# Altium schematic symbol library Connector.SchLib: 31 symbols
Pins are listed as number, name and electrical type; pins without a type are passive.

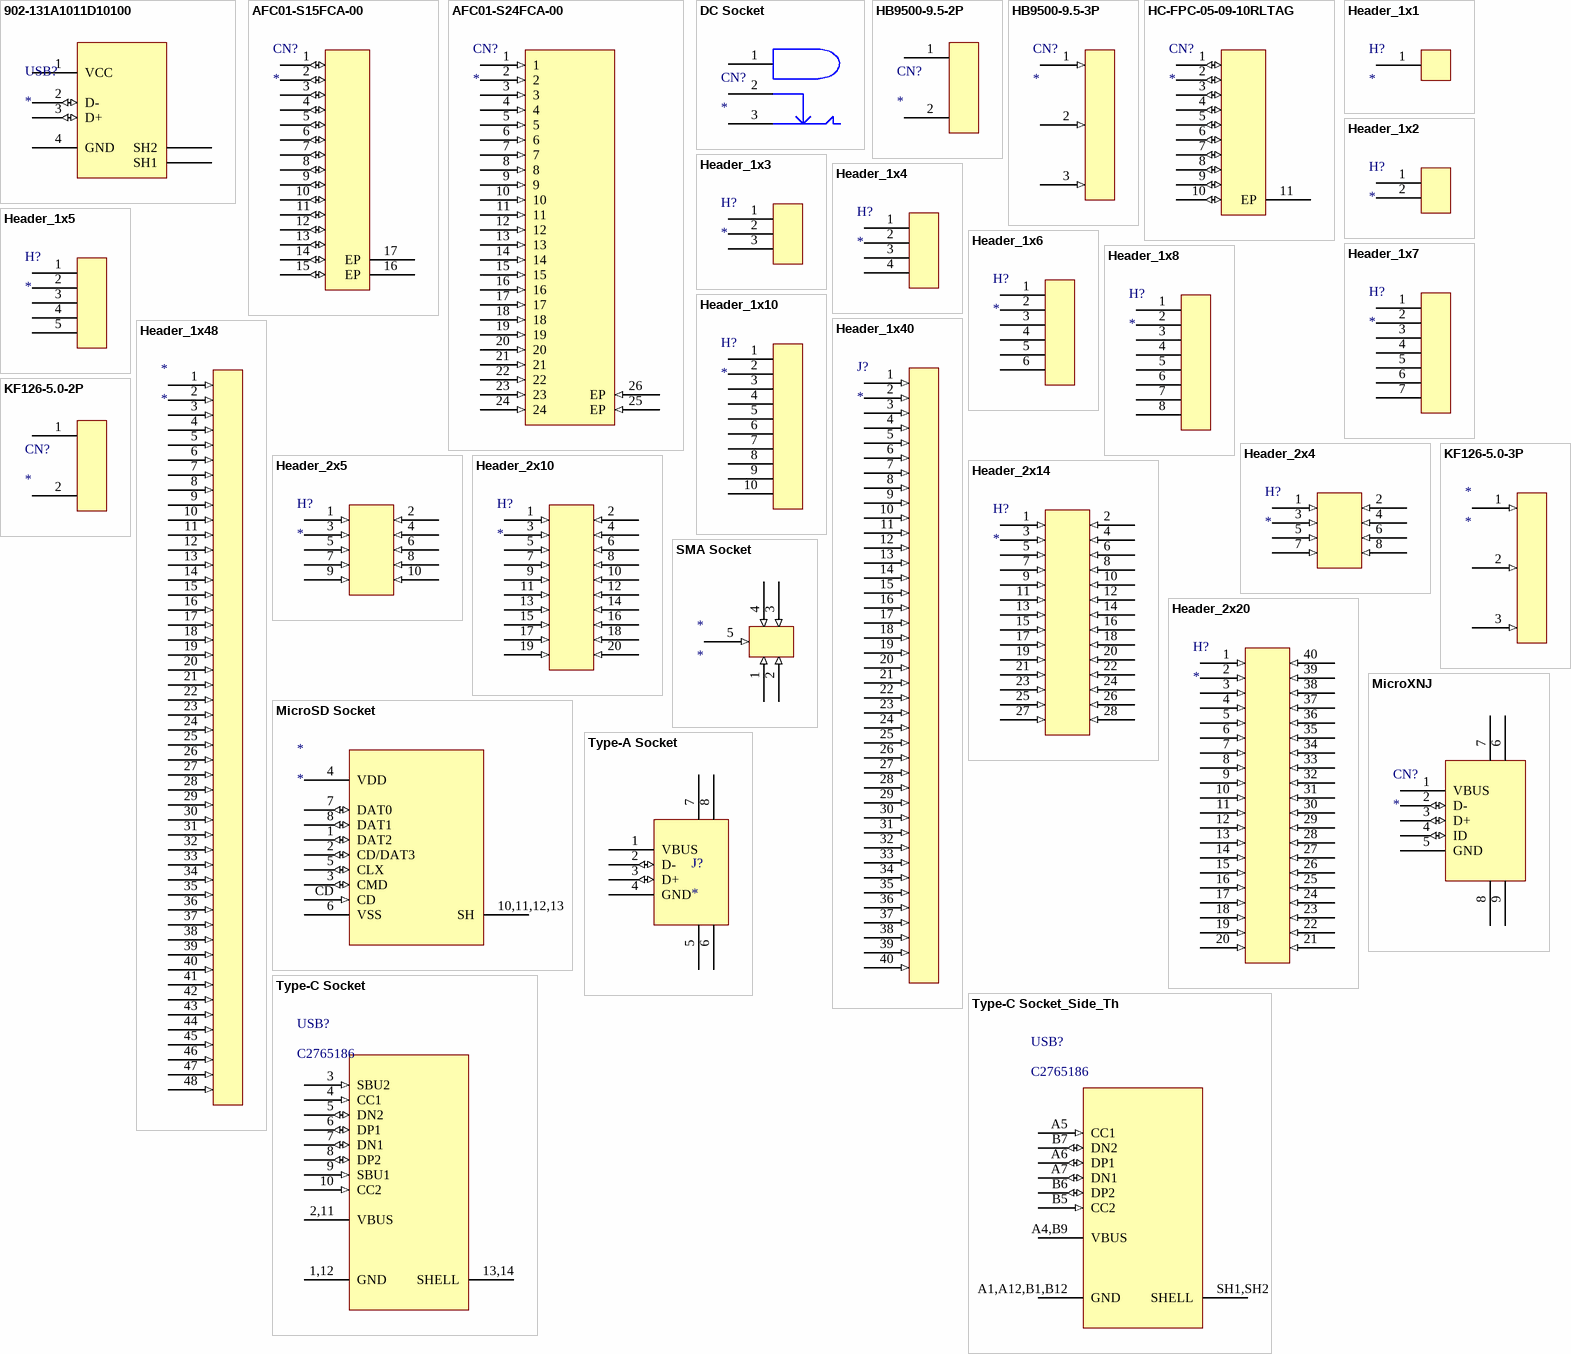
[diagram p0: symbols 902-131A1011D10100 to Type-C Socket_Side_Th]

## 902-131A1011D10100
designator USB?
USB Type-A Socket
footprint 902-131A1011D10100
pins: 1 VCC (power), 2 D- (io), 3 D+ (io), 4 GND (power), SH1, SH2

## AFC01-S15FCA-00
designator CN?
15p Gold Finger Socket
footprint FPC-SMD_15P-P0.50_JS_AFC01-S15FCA-00
pins: 1 (io), 2 (io), 3 (io), 4 (io), 5 (io), 6 (io), 7 (io), 8 (io), 9 (io), 10 (io), 11 (io), 12 (io), 13 (io), 14 (io), 15 (io), 16 EP, 17 EP

## AFC01-S24FCA-00
designator CN?
24p Gold Finger Socket
footprint FPC-SMD_P0.50-24P_FGS-XJ-H2.0
pins: 1 (in), 2 (in), 3 (in), 4 (in), 5 (in), 6 (in), 7 (in), 8 (in), 9 (in), 10 (in), 11 (in), 12 (in), 13 (in), 14 (in), 15 (in), 16 (in), 17 (in), 18 (in), 19 (in), 20 (in), 21 (in), 22 (in), 23 (in), 24 (in), 25 EP (in), 26 EP (in)

## DC Socket
designator CN?
footprint DC-005 2.0
footprint DC-005-A250
pins: 1 V+, 2 V-MOVE, 3 V-STABLE

## HB9500-9.5-2P
designator CN?
footprint HB9500-9.5-2P
pins: 1, 2

## HB9500-9.5-3P
designator CN?
footprint HB9500-9.5-3P
pins: 1 (in), 2 (in), 3 (in)

## HC-FPC-05-09-10RLTAG
designator CN?
15p Gold Finger Socket
footprint FPC-SMD_10P-P0.50_HC-FPC-05-09-10RLTAG
pins: 1 (io), 2 (io), 3 (io), 4 (io), 5 (io), 6 (io), 7 (io), 8 (io), 9 (io), 10 (io), 11 EP

## Header_1x1
designator H?
footprint HEADER_2.54_1X1
pins: 1

## Header_1x2
designator H?
footprint HEADER_2.54_1X2
pins: 1, 2

## Header_1x3
designator H?
footprint HEADER_2.54_1x3
pins: 1, 2, 3

## Header_1x4
designator H?
footprint HEADER_2.54_1x4
pins: 1, 2, 3, 4

## Header_1x5
designator H?
footprint HEADER_2.54_1X5
pins: 1, 2, 3, 4, 5

## Header_1x6
designator H?
footprint HEADER_2.54_1X6
pins: 1, 2, 3, 4, 5, 6

## Header_1x7
designator H?
footprint HEADER_2.54_1X7
pins: 1, 2, 3, 4, 5, 6, 7

## Header_1x8
designator H?
footprint HEADER_2.54_1X8
pins: 1, 2, 3, 4, 5, 6, 7, 8

## Header_1x10
designator H?
footprint HEADER_2.54_1X10
pins: 1, 2, 3, 4, 5, 6, 7, 8, 9, 10

## Header_1x40
designator J?
footprint FPC-SMD_P0.50-40P_FGS-XJ-H2.0
pins: 1 (in), 2 (in), 3 (in), 4 (in), 5 (in), 6 (in), 7 (in), 8 (in), 9 (in), 10 (in), 11 (in), 12 (in), 13 (in), 14 (in), 15 (in), 16 (in), 17 (in), 18 (in), 19 (in), 20 (in), 21 (in), 22 (in), 23 (in), 24 (in), 25 (in), 26 (in), 27 (in), 28 (in), 29 (in), 30 (in), 31 (in), 32 (in), 33 (in), 34 (in), 35 (in), 36 (in), 37 (in), 38 (in), 39 (in), 40 (in)

## Header_1x48
designator *
footprint FPC-SMD_48P-P0.50_XKB_X05A20L48T
pins: 1 (in), 2 (in), 3 (in), 4 (in), 5 (in), 6 (in), 7 (in), 8 (in), 9 (in), 10 (in), 11 (in), 12 (in), 13 (in), 14 (in), 15 (in), 16 (in), 17 (in), 18 (in), 19 (in), 20 (in), 21 (in), 22 (in), 23 (in), 24 (in), 25 (in), 26 (in), 27 (in), 28 (in), 29 (in), 30 (in), 31 (in), 32 (in), 33 (in), 34 (in), 35 (in), 36 (in), 37 (in), 38 (in), 39 (in), 40 (in), 41 (in), 42 (in), 43 (in), 44 (in), 45 (in), 46 (in), 47 (in), 48 (in)

## Header_2x4
designator H?
footprint HDR-TH_8P-P2.54-H-F-R2-C4-W8.5
footprint HDR-TH_8P-P2.54-V-F-R2-C4-W8.5
pins: 1 (in), 2 (in), 3 (in), 4 (in), 5 (in), 6 (in), 7 (in), 8 (in)

## Header_2x5
designator H?
footprint HDR-SMD_10P-P1.27-V-F-R2-C5-LS4.8
footprint HEADER_1.27_2X5
pins: 1 (in), 2 (in), 3 (in), 4 (in), 5 (in), 6 (in), 7 (in), 8 (in), 9 (in), 10 (in)

## Header_2x10
designator H?
footprint HDR-SMD_20P-P1.27-V-M-R2-C10-S1.27-LS5.5-1
footprint HDR-TH_20P-P2.54-H-M-R2-C10-S2.54
footprint HDR-TH_20P-P2.54-V-M-R2-C10-S2.54
pins: 1 (in), 2 (in), 3 (in), 4 (in), 5 (in), 6 (in), 7 (in), 8 (in), 9 (in), 10 (in), 11 (in), 12 (in), 13 (in), 14 (in), 15 (in), 16 (in), 17 (in), 18 (in), 19 (in), 20 (in)

## Header_2x14
designator H?
footprint HDR-SMD_28P-P1.27-V-F-R2-C14-LS4.8
footprint HEADER_1.27_2X14
footprint HDR-TH_28P-P2.54-V-M-R2-C14-S2.54
pins: 1 (in), 2 (in), 3 (in), 4 (in), 5 (in), 6 (in), 7 (in), 8 (in), 9 (in), 10 (in), 11 (in), 12 (in), 13 (in), 14 (in), 15 (in), 16 (in), 17 (in), 18 (in), 19 (in), 20 (in), 21 (in), 22 (in), 23 (in), 24 (in), 25 (in), 26 (in), 27 (in), 28 (in)

## Header_2x20
designator H?
footprint HDR-SMD_40P-P1.27-V-M-R2-C20-LS5.3
footprint HDR-SMD_40P-P1.27-V-F-R2-C20-LS4.8
pins: 1 (in), 2 (in), 3 (in), 4 (in), 5 (in), 6 (in), 7 (in), 8 (in), 9 (in), 10 (in), 11 (in), 12 (in), 13 (in), 14 (in), 15 (in), 16 (in), 17 (in), 18 (in), 19 (in), 20 (in), 21 (in), 22 (in), 23 (in), 24 (in), 25 (in), 26 (in), 27 (in), 28 (in), 29 (in), 30 (in), 31 (in), 32 (in), 33 (in), 34 (in), 35 (in), 36 (in), 37 (in), 38 (in), 39 (in), 40 (in)

## KF126-5.0-2P
designator CN?
footprint KF126-5.0-2P
pins: 1, 2

## KF126-5.0-3P
designator *
footprint KF126-5.0-3P
pins: 1 (in), 2 (in), 3 (in)

## MicroSD Socket
designator *
footprint TF-SMD_TF-PUSH
pins: 1 DAT2 (io), 2 CD/DAT3 (io), 3 CMD (io), 4 VDD (power), 5 CLX (io), 6 VSS (power), 7 DAT0 (io), 8 DAT1 (io), 10,11,12,13 SH, CD (in)

## MicroXNJ
designator CN?
USB Micro-B Socket
footprint MicroXNJ
pins: 1 VBUS (power), 2 D- (io), 3 D+ (io), 4 ID (io), 5 GND (power), 6 SH1, 7 SH2, 8 SH3, 9 SH4

## SMA Socket
designator *
footprint BWSMA-KWE-Z001
footprint BWSMA-KE-Z001
footprint BWSMA-KE-P001
pins: 1 (in), 2 (in), 3 (in), 4 (in), 5 (in)

## Type-A Socket
designator J?
footprint USB-A-TH_USB-226-BRW
pins: 1 VBUS (power), 2 D- (io), 3 D+ (io), 4 GND (power), 5 SH4, 6 SH1, 7 SH2, 8 SH3

## Type-C Socket
designator USB?, comment C2765186
TYPE-C 16PIN 2MD(073)
footprint USB-C-SMD_TYPE-C-6PIN-2MD-073
pins: 1,12 GND (power), 2,11 VBUS (power), 3 SBU2 (in), 4 CC1 (in), 5 DN2 (io), 6 DP1 (io), 7 DN1 (io), 8 DP2 (io), 9 SBU1 (in), 10 CC2 (in), 13,14 SHELL

## Type-C Socket_Side_Th
designator USB?, comment C2765186
TYPE-C 16PIN 2MD(073)
footprint TYPE-C-TH_TYPE-C-14P-CC-2.6
pins: A1,A12,B1,B12 GND (power), A4,B9 VBUS (power), A5 CC1 (in), A6 DP1 (io), A7 DN1 (io), B5 CC2 (in), B6 DP2 (io), B7 DN2 (io), SH1,SH2 SHELL